# EAGLE library part LTC6802-2 (library ELE4000_BMS)
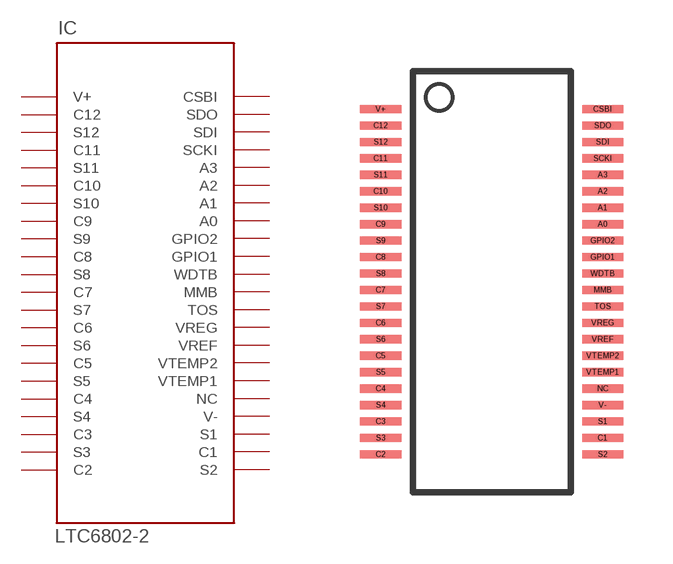
[diagram p6: symbol with the pads of LTC6802; footprint LTC6802]

Designator prefix IC

## LTC6802-2  [LTC6802]
A0  A0
A1  A1
A2  A2
A3  A3
C1  C1
C2  C2
C3  C3
C4  C4
C5  C5
C6  C6
C7  C7
C8  C8
C9  C9
C10  C10
C11  C11
C12  C12
CSBI  CSBI
GPIO1  GPIO1
GPIO2  GPIO2
MMB  MMB
NC  NC
S1  S1
S2  S2
S3  S3
S4  S4
S5  S5
S6  S6
S7  S7
S8  S8
S9  S9
S10  S10
S11  S11
S12  S12
SCKI  SCKI
SDI  SDI
SDO  SDO
TOS  TOS
V+  V+
V-  V-
VREF  VREF
VREG  VREG
VTEMP1  VTEMP1
VTEMP2  VTEMP2
WDTB  WDTB

## Footprint LTC6802 (pad centres in mm)
smd 1.25 x 0.25: A0 3.375,1.75; A1 3.375,2.25; A2 3.375,2.75; A3 3.375,3.25; C1 3.375,-4.75; C2 -3.375,-5.25; C3 -3.375,-4.25; C4 -3.375,-3.25; C5 -3.375,-2.25; C6 -3.375,-1.25; C7 -3.375,-0.25; C8 -3.375,0.75; C9 -3.375,1.75; C10 -3.375,2.75; C11 -3.375,3.75; C12 -3.375,4.75; CSBI 3.375,5.25; GPIO1 3.375,0.75; GPIO2 3.375,1.25; MMB 3.375,-0.25; NC 3.375,-3.25; S1 3.375,-4.25; S2 3.375,-5.25; S3 -3.375,-4.75; S4 -3.375,-3.75; S5 -3.375,-2.75; S6 -3.375,-1.75; S7 -3.375,-0.75; S8 -3.375,0.25; S9 -3.375,1.25; S10 -3.375,2.25; S11 -3.375,3.25; S12 -3.375,4.25; SCKI 3.375,3.75; SDI 3.375,4.25; SDO 3.375,4.75; TOS 3.375,-0.75; V+ -3.375,5.25; V- 3.375,-3.75; VREF 3.375,-1.75; VREG 3.375,-1.25; VTEMP1 3.375,-2.75; VTEMP2 3.375,-2.25; WDTB 3.375,0.25